# Altium schematic symbol library Connectors Sym Lib.SchLib: 70 symbols
Pins are listed as number, name and electrical type; pins without a type are passive.

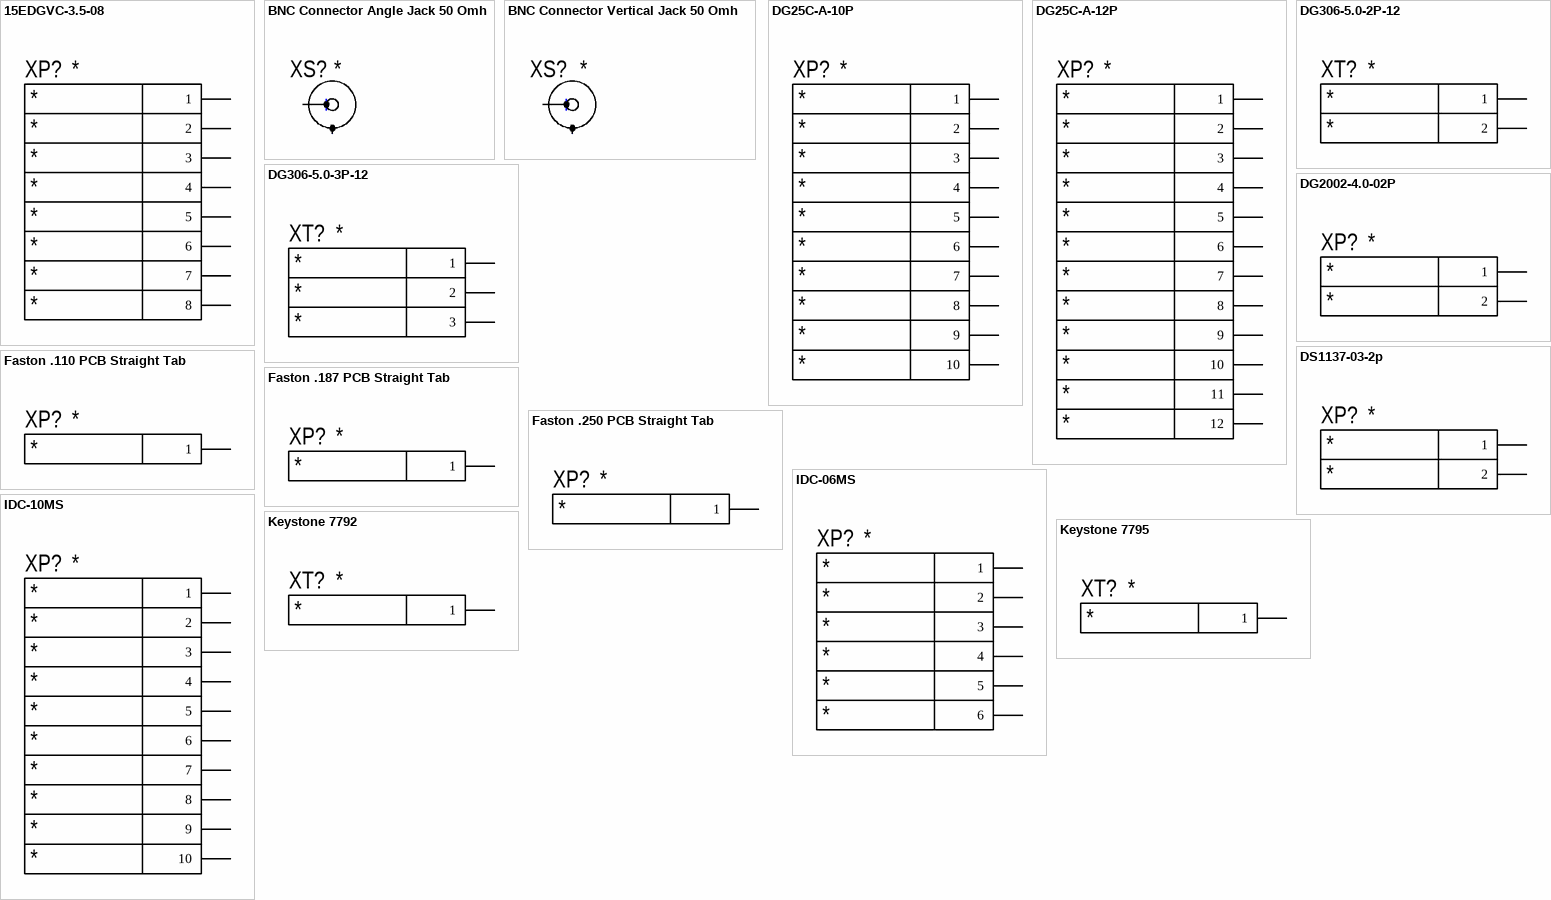
[diagram p0: symbols 15EDGVC-3.5-08 to Keystone 7795]

## 15EDGVC-3.5-08
designator XP?, comment PCB Vertical Connector 8-Pin, Pitch 3.5mm  (value not drawn)
PCB Vertical Connector 8-Pin Pitch 3.5mm, 300V, 8A per Pin; Manufacture: Degson; PartNumber: 15EDGVC-3.5-08; ComponentLink1Description: 15EDGVC-3.5(Degson); ComponentLink1URL: C:\Altium Libraries\Connectors Library\DataSheet\15EDGVC-3.5(Degson).pdf; Pin 8 Name: *; Pin 7 Name: *; Pin 6 Name: *; Pin 5 Name: *; Pin 4 Name: *; Pin 3 Name: *; Name Connector: *; Pin 2 Name: *; Pin 1 Name: *
footprint 15EDGVC-3.5-08 (PCB Vertical Connector 8-Pin)
pins: 1 "Pin 1", 2 "Pin 2", 3 "Pin 3", 4 "Pin 4", 5 "Pin 5", 6 "Pin 6", 7 "Pin 7", 8 "Pin 8"

## BNC Connector Angle Jack 50 Omh
designator XS?, comment BNC Angle Jack 50 Omh  (value not drawn)
BNC Connector Angle Jack 50 Omh; Manufacture: TE Connectivity; PartNumber: 5227677-1; ComponentLink1Description: BNC Connector Vertical Jack 50 Omh; ComponentLink1URL: https://www.te.com/commerce/DocumentDelivery/DDEController?Action=srchrtrv&DocNm=5227673&DocType=Customer+Drawing&DocLang=English; ComponentLink2Description: BNC Connector Angle Jack 50 Omh; ComponentLink2URL: https://www.te.com/commerce/DocumentDelivery/DDEController?Action=srchrtrv&DocNm=1634612&DocType=Customer+Drawing&DocLang=English; Name Connector: *
footprint BNC Angle (BNC Angle Jack PCB mount)
pins: 1 Core "Cenral Wire Coaxial Cable", 2 Shield "Cenral Wire Coaxial Cable"

## BNC Connector Vertical Jack 50 Omh
designator XS?, comment BNC Vertical Jack 50 Omh  (value not drawn)
BNC Connector Vertical Jack 50 Omh; Manufacture: TE Connectivity; PartNumber: 5227673-1; ComponentLink1Description: BNC Connector Vertical Jack 50 Omh; ComponentLink1URL: https://www.te.com/commerce/DocumentDelivery/DDEController?Action=srchrtrv&DocNm=5227673&DocType=Customer+Drawing&DocLang=English; Name Connector: *
footprint BNC Vertical (BNC Vertical Jack PCB mount)
pins: 1 Core "Cenral Wire Coaxial Cable", 2 Shield "Cenral Wire Coaxial Cable"

## DG25C-A-10P
designator XP?, comment PCB Vertical Connector 10-Pin, Pitch 7.62mm  (value not drawn)
PCB Vertical Connector 10-Pin Pitch 7.62mm, 300V, 10A per Pin; Manufacture: Degson; PartNumber: DG25C-A-10P-13-00A(H); ComponentLink2Description: DG25C-A Series Connector; ComponentLink2URL: *; Pin 10 Name: *; Pin 9 Name: *; Pin 8 Name: *; Pin 7 Name: *; Pin 6 Name: *; Pin 5 Name: *; Pin 4 Name: *; Pin 3 Name: *; Name Connector: *; Pin 2 Name: *; Pin 1 Name: *
footprint DG25C-A-10P (PCB Vertical Connector 10-Pin)
pins: 1 "Pin 1", 2 "Pin 2", 3 "Pin 3", 4 "Pin 4", 5 "Pin 5", 6 "Pin 6", 7 "Pin 7", 8 "Pin 8", 9 "Pin 9", 10 "Pin 10"

## DG25C-A-12P
designator XP?, comment PCB Vertical Connector 12-Pin, Pitch 7.62mm  (value not drawn)
PCB Vertical Connector 12-Pin Pitch 7.62mm, 300V, 15A per Pin; Manufacture: Degson; PartNumber: DG25C-A-12P-13-00A(H); ComponentLink2Description: DG25C-A Series Connector; ComponentLink2URL: *; Pin 12 Name: *; Pin 11 Name: *; Pin 10 Name: *; Pin 9 Name: *; Pin 8 Name: *; Pin 7 Name: *; Pin 6 Name: *; Pin 5 Name: *; Pin 4 Name: *; Pin 3 Name: *; Name Connector: *; Pin 2 Name: *; Pin 1 Name: *
footprint DG25C-A-12P (PCB Vertical Connector 12-Pin)
pins: 1 "Pin 1", 2 "Pin 2", 3 "Pin 3", 4 "Pin 4", 5 "Pin 5", 6 "Pin 6", 7 "Pin 7", 8 "Pin 8", 9 "Pin 9", 10 "Pin 10", 11 "Pin 10", 12 "Pin 10"

## DG306-5.0-2P-12
designator XT?, comment PCB Screw Terminal Blocks 2-Pin, Pitch 5mm  (value not drawn)
PCB Screw Terminal Blocks 2-Pole, Pitch 5mm, 250V, 15A per Pin; Manufacture: Degson; PartNumber: DG306-5.0-2P-12; ComponentLink1Description: DG306-5.0 Series Connector (Degson); ComponentLink1URL: http://www.degson.com/en/downpdf/id/948.html; Name Connector: *; Pin 2 Name: *; Pin 1 Name: *
footprint DG306-5.0-2P (Degson PCB Screw Terminal Blocks)
pins: 1 "Pin 1", 2 "Pin 2"

## DG306-5.0-3P-12
designator XT?, comment PCB Screw Terminal Blocks 3-Pin, Pitch 5mm  (value not drawn)
PCB Screw Terminal Blocks 3-Pole, Pitch 5mm, 250V, 15A per Pin; Manufacture: Degson; PartNumber: DG306-5.0-3P-12; ComponentLink1Description: DG306-5.0 Series Connector (Degson); ComponentLink1URL: http://www.degson.com/en/downpdf/id/948.html; Pin 3 Name: *; Name Connector: *; Pin 2 Name: *; Pin 1 Name: *
footprint DG306-5.0-3P (Degson PCB Screw Terminal Blocks)
pins: 1 "Pin 1", 2 "Pin 2", 3 "Pin 3"

## DG2002-4.0-02P
designator XP?
Manufacture: *; PartNumber: *; Name Connector: *; Pin 2 Name: *; Pin 1 Name: *
footprint DG2002-4.0-02P (2.0mm Pitch Disconnectable Crimp Style Connector, Body 7.9mm x 8.6mm)
pins: 1 "Pin 1", 2 "Pin 2"

## DS1137-03-2p
designator XP?
Manufacture: *; PartNumber: *; Name Connector: *; Pin 2 Name: *; Pin 1 Name: *
footprint DS1137-03-2p
pins: 1 "Pin 1", 2 "Pin 2"

## Faston .110 PCB Straight Tab
designator XP?  (value not drawn)
TE Connectivity FASTON .110 Series , Straight Mount Angle PCB Tab Terminal, 2.8 x 0.8mm Tin Plated; PartNumber: 735427-2; ComponentLink1Description: TE Connectivity FASTON .110 Series(P/N 735427-2); ComponentLink1URL: https://www.te.com/commerce/DocumentDelivery/DDEController?Action=srchrtrv&DocNm=735427&DocType=Customer+Drawing&DocLang=English; Manufacture: TE Connectivity; ComponentLink2Description: Wiki; ComponentLink2URL: https://en.wikipedia.org/wiki/FASTON_terminal; Pin Name: *; Name Connector: *
footprint Faston .110 (Faston .110  Series , Straight, PCB, 2.8 x 0.8mm)
pins: 1 "Pin 1"

## Faston .187 PCB Straight Tab
designator XP?  (value not drawn)
TE Connectivity FASTON .187 Series , Straight Mount Angle PCB Tab Terminal, 4.75 x 0.8mm Tin Plated; PartNumber: 1212; Manufacture: Keystone Electronics; ComponentLink1Description: Keystone Electronics FASTON .187 Series(P/N 1212); ComponentLink1URL: http://www.keyelco.com/product-pdf.cfm?p=595; ComponentLink2Description: Wiki; ComponentLink2URL: https://en.wikipedia.org/wiki/FASTON_terminal; Pin Name: *; Name Connector: *
footprint Faston .187 (Faston .187  Series , Straight, PCB, 4.75 x 0.8mm)
pins: 1 "Pin 1"

## Faston .250 PCB Straight Tab
designator XP?, comment Faston .187 PCB Straight Tab  (value not drawn)
TE Connectivity FASTON .250 Series , Straight Mount Angle PCB Tab Terminal, 6.35 x 0.8mm Tin Plated; PartNumber: 1287; Manufacture: Keystone Electronics; ComponentLink1Description: Keystone Electronics FASTON .250 Series(P/N 1287); ComponentLink1URL: http://www.keyelco.com/product-pdf.cfm?p=610; ComponentLink2Description: Wiki; ComponentLink2URL: https://en.wikipedia.org/wiki/FASTON_terminal; Pin Name: *; Name Connector: *
footprint Faston .250 (Faston .250  Series , Straight, PCB, 6.35 x 0.8mm)
pins: 1 "Pin 1"

## IDC-06MS
designator XP?, comment PCB Vertical Connector 6-Pin, Pitch 2.54mm  (value not drawn)
PCB Vertical Connector 6-Pin Pitch 2.54mm, 250V, 3A per Pin; Manufacture: Connfly; PartNumber: DS1013-10SSiB1-B-0; ComponentLink1Description: WF (DS1070) Series Connector; ComponentLink1URL: https://static.chipdip.ru/lib/463/DOC002463525.pdf; Pin 6 Name: *; Pin 5 Name: *; Pin 4 Name: *; Pin 3 Name: *; Name Connector: *; Pin 2 Name: *; Pin 1 Name: *
footprint IDC-06MS
pins: 1 "Pin 1", 2 "Pin 2", 3 "Pin 3", 4 "Pin 4", 5 "Pin 5", 6 "Pin 6"

## IDC-10MS
designator XP?, comment PCB Vertical Connector 10-Pin, Pitch 2.54mm  (value not drawn)
PCB Vertical Connector 10-Pin Pitch 2.54mm, 250V, 3A per Pin; Manufacture: Connfly; PartNumber: DS1013-10SSiB1-B-0; ComponentLink1Description: WF (DS1070) Series Connector; ComponentLink1URL: https://static.chipdip.ru/lib/463/DOC002463525.pdf; Pin 10 Name: *; Pin 9 Name: *; Pin 8 Name: *; Pin 7 Name: *; Pin 6 Name: *; Pin 5 Name: *; Pin 4 Name: *; Pin 3 Name: *; Name Connector: *; Pin 2 Name: *; Pin 1 Name: *
footprint IDC-10MS
pins: 1 "Pin 1", 2 "Pin 2", 3 "Pin 3", 4 "Pin 4", 5 "Pin 5", 6 "Pin 6", 7 "Pin 7", 8 "Pin 8", 9 "Pin 9", 10 "Pin 10"

## Keystone 7792
designator XT?, comment Keystone 7792 M4 Screw Terminal  (value not drawn)
Keystone, M4, PCB Screw Terminal, Tin Plated; PartNumber: 7792; ComponentLink1Description: Keystone 7792 M4 Screw Terminal; ComponentLink1URL: https://ru.mouser.com/datasheet/2/215/792-741216.pdf; Manufacture: Keystone; Pin Name: *; Name Connector: *
footprint 7792(Keystone) (Keystone)
pins: 1 "Pin 1"

## Keystone 7795
designator XT?, comment Keystone 7795 M4 Screw Terminal  (value not drawn)
Keystone, M4, PCB Screw Terminal, Tin Plated; PartNumber: 7795; ComponentLink1Description: Keystone 7795 M4 Screw Terminal; ComponentLink1URL: https://ru.mouser.com/datasheet/2/215/795-741217.pdf; Manufacture: Keystone; Pin Name: *; Name Connector: *
footprint 7795(Keystone) (Keystone)
pins: 1 "Pin 1"

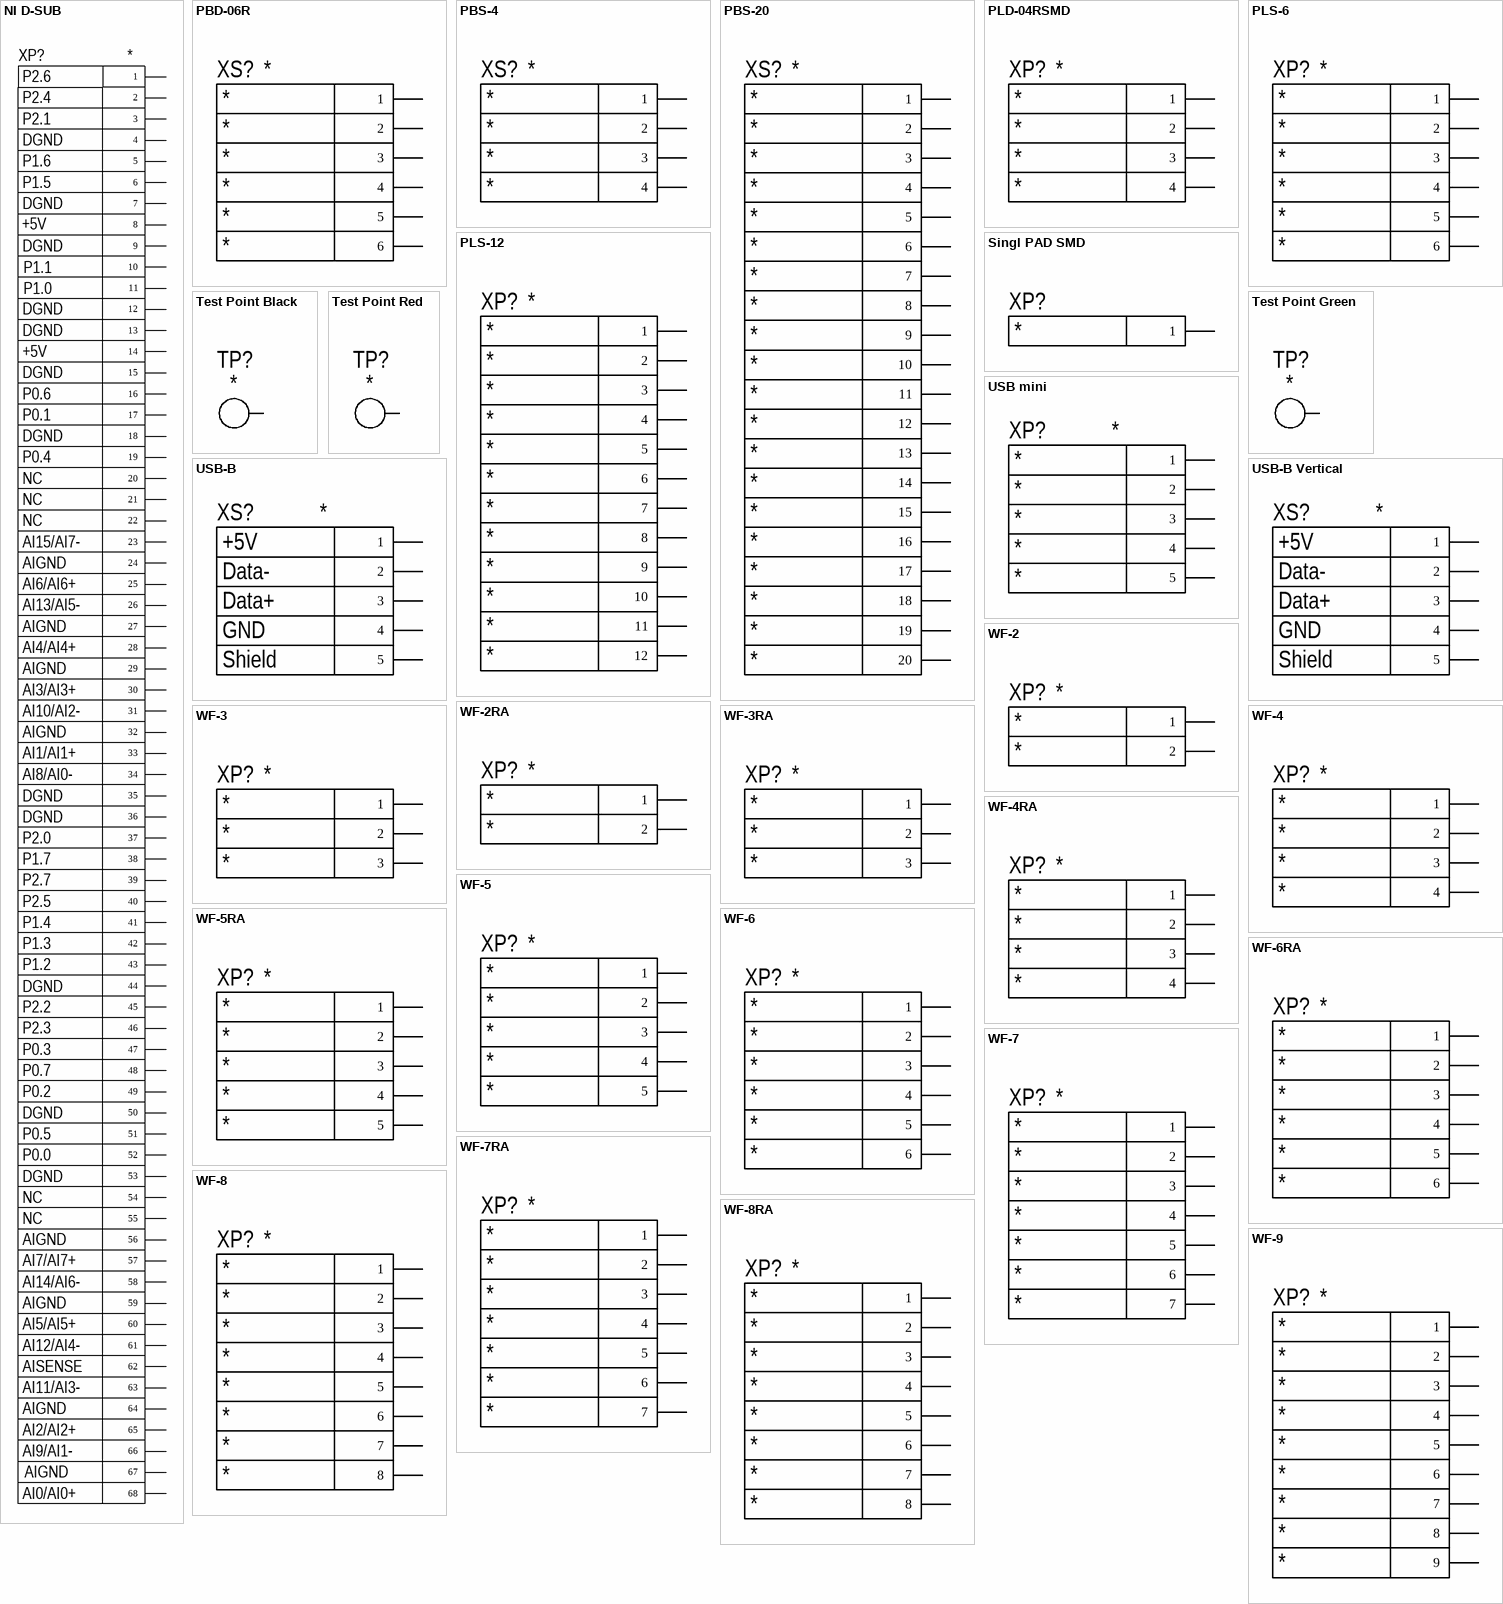
[diagram p1: symbols NI D-SUB to WF-9]

## NI D-SUB
designator XP?, comment National Instruments 68-pin D-SUB  (value not drawn)
Name Connector: *
footprint PLD-68 (PCB Vertical Connector 2x68)
pins: 1 "Pin 1", 2 "Pin 2", 3 "Pin 3", 4 "Pin 4", 5 "Pin 5", 6 "Pin 6", 7 "Pin 7", 8 "Pin 8", 9 "Pin 9", 10 "Pin 10", 11 "Pin 11", 12 "Pin 12", 13 "Pin 13", 14 "Pin 14", 15 "Pin 15", 16 "Pin 16", 17 "Pin 17", 18 "Pin 18", 19 "Pin 19", 20 "Pin 20", 21 "Pin 21", 22 "Pin 22", 23 "Pin 23", 24 "Pin 24", 25 "Pin 25", 26 "Pin 26", 27 "Pin 27", 28 "Pin 28", 29 "Pin 29", 30 "Pin 30", 31 "Pin 31", 32 "Pin 32", 33 "Pin 33", 34 "Pin 34", 35 "Pin 35", 36 "Pin 36", 37 "Pin 37", 38 "Pin 38", 39 "Pin 39", 40 "Pin 40", 41 "Pin 41", 42 "Pin 42", 43 "Pin 43", 44 "Pin 44", 45 "Pin 45", 46 "Pin 46", 47 "Pin 47", 48 "Pin 48", 49 "Pin 49", 50 "Pin 50", 51 "Pin 51", 52 "Pin 52", 53 "Pin 53", 54 "Pin 54", 55 "Pin 55", 56 "Pin 56", 57 "Pin 57", 58 "Pin 58", 59 "Pin 59", 60 "Pin 60", 61 "Pin 61", 62 "Pin 62", 63 "Pin 63", 64 "Pin 64", 65 "Pin 65", 66 "Pin 66", 67 "Pin 67", 68 "Pin 68"
text: P2.6; P2.4; P2.1; DGND; P1.6; P1.5; +5V; P1.1; P1.0; P0.6; P0.1; P0.4; NC; AI15/AI7-; AIGND; AI6/AI6+; AI13/AI5-; AI4/AI4+; AI3/AI3+; AI10/AI2-; AI1/AI1+; AI8/AI0-; P2.0; P1.7; P2.7; P2.5; P1.4; P1.3; P1.2; P2.2; P2.3; P0.3; P0.7; P0.2; P0.5; P0.0; AI7/AI7+; AI14/AI6-; AI5/AI5+; AI12/AI4-; AISENSE; AI11/AI3-; AI2/AI2+; AI9/AI1-; AI0/AI0+

## PBD-06R
designator XS?, comment PCB Rigth Angle  Connector 2*3-Pin, Pitch 2.54mm  (value not drawn)
PCB Rigth Angle Connector 2*3-Pin Pitch 2.54mm, 250V, 3A per Pin; Manufacture: Connfly; PartNumber: DS1024-2x3RF1; ComponentLink1Description: PBD (DS1024) Series Connector; ComponentLink1URL: http://www.connfly.com/userfiles/image/UpLoadFile/File/2016/1/22/DS1024.pdf; Pin 6 Name: *; Pin 5 Name: *; Pin 4 Name: *; Pin 3 Name: *; Name Connector: *; Pin 2 Name: *; Pin 1 Name: *
footprint PBD-06R (PCB Vertical Connector 6-Pin)
pins: 1 "Pin 1", 2 "Pin 2", 3 "Pin 3", 4 "Pin 4", 5 "Pin 5", 6 "Pin 6"

## PBS-4
designator XS?, comment PCB Vertical Connector 4-Pin, Pitch 2.54mm  (value not drawn)
PCB Vertical Connector 4-Pin Pitch 2.54mm, 250V, 3A per Pin; Manufacture: Connfly; PartNumber: DS1023-1*20SF11; ComponentLink1Description: PBS (DS1023) Series Connector; ComponentLink1URL: http://www.connfly.com/userfiles/image/UpLoadFile/File/2015/2/10/DS1023.pdf; Pin 4 Name: *; Pin 3 Name: *; Name Connector: *; Pin 2 Name: *; Pin 1 Name: *
footprint PBS-4 (PCB Vertical Connector 4-Pin)
pins: 1 "Pin 1", 2 "Pin 2", 3 "Pin 3", 4 "Pin 4"

## PBS-20
designator XS?, comment PCB Vertical Connector 20-Pin, Pitch 2.54mm  (value not drawn)
PCB Vertical Connector 20-Pin Pitch 2.54mm, 250V, 3A per Pin; Manufacture: Connfly; PartNumber: DS1023-1*20SF11; ComponentLink1Description: PBS (DS1023) Series Connector; ComponentLink1URL: http://www.connfly.com/userfiles/image/UpLoadFile/File/2015/2/10/DS1023.pdf; Pin 20 Name: *; Pin 19 Name: *; Pin 18 Name: *; Pin 17 Name: *; Pin 16 Name: *; Pin 15 Name: *; Pin 14 Name: *; Pin 13 Name: *; Pin 12 Name: *; Pin 11 Name: *; Pin 10 Name: *; Pin 9 Name: *; Pin 8 Name: *; Pin 7 Name: *; Pin 6 Name: *; Pin 5 Name: *; Pin 4 Name: *; Pin 3 Name: *; Name Connector: *; Pin 2 Name: *; Pin 1 Name: *
footprint PBS-20 (PCB Vertical Connector 20-Pin)
pins: 1 "Pin 1", 2 "Pin 2", 3 "Pin 3", 4 "Pin 4", 5 "Pin 5", 6 "Pin 6", 7 "Pin 7", 8 "Pin 8", 9 "Pin 9", 10 "Pin 10", 11 "Pin 11", 12 "Pin 12", 13 "Pin 13", 14 "Pin 14", 15 "Pin 15", 16 "Pin 16", 17 "Pin 17", 18 "Pin 18", 19 "Pin 19", 20 "Pin 20"

## PLD-04RSMD
designator XP?, comment PCB Vertical Connector 4-Pin, Pitch 2.54mm  (value not drawn)
PLDR-04SMD PCB SMD Right Angled Dual Row Connector 4-Pin Pitch 2.54mm, 250V, 3A per Pin; Manufacture: Unknown; PartNumber: 1225-22; ComponentLink1Description: PBS (DS1023) Series Connector; ComponentLink1URL: No available; Pin 4 Name: *; Pin 3 Name: *; Name Connector: *; Pin 2 Name: *; Pin 1 Name: *
footprint PLD-04RSMD (Right Angled Dual Row Connector SMD PLD-04RSMD 3A 250V)
pins: 1 "Pin 1", 2 "Pin 2", 3 "Pin 3", 4 "Pin 4"

## PLS-6
designator XP?, comment PCB Vertical Connector 6-Pin, Pitch 2.54mm  (value not drawn)
PCB Vertical Connector 6-Pin Pitch 2.54mm, 250V, 3A per Pin; Manufacture: Connfly; PartNumber: DS1070-6MVV6A; ComponentLink1Description: PLS (DS1021) Series Connector; ComponentLink1URL: http://www.connfly.com/userfiles/image/UpLoadFile/File/2015/1/29/DS1021.pdf; Pin 6 Name: *; Pin 5 Name: *; Pin 4 Name: *; Pin 3 Name: *; Name Connector: *; Pin 2 Name: *; Pin 1 Name: *
footprint PLS-6 (PCB Vertical Connector 6-Pin)
pins: 1 "Pin 1", 2 "Pin 2", 3 "Pin 3", 4 "Pin 4", 5 "Pin 5", 6 "Pin 6"

## PLS-12
designator XP?, comment PCB Vertical Connector 12-Pin, Pitch 2.54mm  (value not drawn)
PCB Vertical Connector 12-Pin Pitch 2.54mm, 250V, 3A per Pin; Manufacture: Connfly; PartNumber: DS1070-12MVV6A; ComponentLink1Description: WF (DS1070) Series Connector; ComponentLink1URL: http://www.connfly.com/userfiles/image/UpLoadFile/File/2018/2/28/DS1070.pdf; Pin 12 Name: *; Pin 11 Name: *; Pin 10 Name: *; Pin 9 Name: *; Pin 8 Name: *; Pin 7 Name: *; Pin 6 Name: *; Pin 5 Name: *; Pin 4 Name: *; Pin 3 Name: *; Name Connector: *; Pin 2 Name: *; Pin 1 Name: *
footprint PLS-12 (PCB Vertical Connector 6-Pin)
pins: 1 "Pin 1", 2 "Pin 2", 3 "Pin 3", 4 "Pin 4", 5 "Pin 5", 6 "Pin 6", 7 "Pin 7", 8 "Pin 8", 9 "Pin 9", 10 "Pin 10", 11 "Pin 11", 12 "Pin 12"

## Singl PAD SMD
designator XP?
Pin 1 Name: *
footprint PAD
pins: 1 "Pin 1"

## Test Point Black
designator TP?, comment Test Point Black Color  (value not drawn)
Test Point 3 mm, Black Color, Gold Plated; PartNumber: AliExpress; Manufacture: N/A; Name Connector: *
footprint Test Point 3mm Black (Test Point 3mm Connector, Black Color)
pins: 1 "Pin 1"

## Test Point Green
designator TP?, comment Test Point Green Color  (value not drawn)
Test Point 3 mm, Green Color, Gold Plated; PartNumber: AliExpress; Manufacture: N/A; Name Connector: *
footprint Test Point 3mm Green (Test Point 3mm Connector, Green Color)
pins: 1 "Pin 1"

## Test Point Red
designator TP?, comment Test Point Red Color  (value not drawn)
Test Point 3 mm, Red Color, Gold Plated; PartNumber: 7792; Manufacture: Keystone; ComponentLink1Description: Test Point Red Color; ComponentLink1URL: https://ru.mouser.com/datasheet/2/215/792-741216.pdf; Name Connector: *
footprint Test Point 3mm Red (Test Point 3mm Connector, Red Color)
pins: 1 "Pin 1"

## USB mini
designator XP?
Pin 5 Name: *; Pin 4 Name: *; Pin 3 Name: *; Pin 2 Name: *; Pin 1 Name: *
footprint XM7D-0512 (USB-mini)
pins: 1 "Pin 1", 2 "Pin 2", 3 "Pin 3", 4 "Pin 4", 5 "Pin 5", GND hidden

## USB-B
designator XS?  Pin 5 Name: Shield  Pin 4 Name: GND  Pin 3 Name: Data+  Pin 2 Name: Data-  Pin 1 Name: +5V
USB-B Socket (ConnFly DS1099); PartNumber: DS1099-W
footprint USB-B (USB-B (DS1099-W))
pins: +5V 1 "Pin 1", D+ 3 "Pin 3", D- 2 "Pin 2", GND 4 "Pin 4", Shield 5 "Pin 5"

## USB-B Vertical
designator XS?  Pin 5 Name: Shield  Pin 4 Name: GND  Pin 3 Name: Data+  Pin 2 Name: Data-  Pin 1 Name: +5V
USB-B Socket (ConnFly DS1099); PartNumber: DS1099-W
footprint USB-B  VERTICAL (USB, MICRO-B  VERTICAL TYPE)
pins: +5V 1 "Pin 1", D+ 3 "Pin 3", D- 2 "Pin 2", GND 4 "Pin 4", Shield 5 "Pin 5"

## WF-2
designator XP?, comment PCB Vertical Connector 2-Pin, Pitch 2.54mm  (value not drawn)
PCB Vertical Connector 2 Pin Pitch 2.54mm, 250V, 3A per Pin; Manufacture: Connfly; PartNumber: DS1070-2MVV6A; ComponentLink1Description: WF (DS1070) Series Connector; ComponentLink1URL: http://www.connfly.com/userfiles/image/UpLoadFile/File/2018/2/28/DS1070.pdf; Name Connector: *; Pin 2 Name: *; Pin 1 Name: *
footprint WF-2 (PCB Vertical Connector 2-Pin)
pins: 1 "Pin 1", 2 "Pin 2"

## WF-2RA
designator XP?, comment PCB Rigth Angle Connector 2-Pin, Pitch 2.54mm  (value not drawn)
PCB Rigth Angle Connector 2-Pin, Pitch 2.54mm, 250V, 3A per Pin; Manufacture: Connfly; PartNumber: DS1070-2MRV6A; ComponentLink1Description: WF (DS1070) Series Connector; ComponentLink1URL: http://www.connfly.com/userfiles/image/UpLoadFile/File/2018/2/28/DS1070.pdf; Name Connector: *; Pin 2 Name: *; Pin 1 Name: *
footprint WF-2RA (PCB Rigth Angle Connector 2-Pin)
pins: 1 "Pin 1", 2 "Pin 2"

## WF-3
designator XP?, comment PCB Vertical Connector 3-Pin, Pitch 2.54mm  (value not drawn)
PCB Vertical Connector 3-Pin Pitch 2.54mm, 250V, 3A per Pin; Manufacture: Connfly; PartNumber: DS1070-3MVV6A; ComponentLink1Description: WF (DS1070) Series Connector; ComponentLink1URL: http://www.connfly.com/userfiles/image/UpLoadFile/File/2018/2/28/DS1070.pdf; Pin 3 Name: *; Name Connector: *; Pin 2 Name: *; Pin 1 Name: *
footprint WF-3 (PCB Vertical Connector 3-Pin)
pins: 1 "Pin 1", 2 "Pin 2", 3 "Pin 3"

## WF-3RA
designator XP?, comment PCB Rigth Angle Connector 3-Pin, Pitch 2.54mm  (value not drawn)
PCB Rigth Angle Connector 3-Pin, Pitch 2.54mm, 250V, 3A per Pin; Manufacture: Connfly; PartNumber: DS1070-3MRV6A; ComponentLink1Description: WF (DS1070) Series Connector; ComponentLink1URL: http://www.connfly.com/userfiles/image/UpLoadFile/File/2018/2/28/DS1070.pdf; Pin 3 Name: *; Name Connector: *; Pin 2 Name: *; Pin 1 Name: *
footprint WF-3RA (PCB Rigth Angle Connector 3-Pin)
pins: 1 "Pin 1", 2 "Pin 2", 3 "Pin 3"

## WF-4
designator XP?, comment PCB Vertical Connector 4-Pin, Pitch 2.54mm  (value not drawn)
PCB Vertical Connector 4-Pin Pitch 2.54mm, 250V, 3A per Pin; Manufacture: Connfly; PartNumber: DS1070-4MVV6A; ComponentLink1Description: WF (DS1070) Series Connector; ComponentLink1URL: http://www.connfly.com/userfiles/image/UpLoadFile/File/2018/2/28/DS1070.pdf; Pin 4 Name: *; Pin 3 Name: *; Name Connector: *; Pin 2 Name: *; Pin 1 Name: *
footprint WF-4 (PCB Vertical Connector 4-Pin)
pins: 1 "Pin 1", 2 "Pin 2", 3 "Pin 3", 4 "Pin 4"

## WF-4RA
designator XP?, comment PCB Rigth Angle Connector 4-Pin, Pitch 2.54mm  (value not drawn)
PCB Rigth Angle Connector 4-Pin, Pitch 2.54mm, 250V, 3A per Pin; Manufacture: Connfly; PartNumber: DS1070-4MRV6A; ComponentLink1Description: WF (DS1070) Series Connector; ComponentLink1URL: http://www.connfly.com/userfiles/image/UpLoadFile/File/2018/2/28/DS1070.pdf; Pin 4 Name: *; Pin 3 Name: *; Name Connector: *; Pin 2 Name: *; Pin 1 Name: *
footprint WF-4RA (PCB Rigth Angle Connector 4-Pin)
pins: 1 "Pin 1", 2 "Pin 2", 3 "Pin 3", 4 "Pin 4"

## WF-5
designator XP?, comment PCB Vertical Connector 5-Pin, Pitch 2.54mm  (value not drawn)
PCB Vertical Connector 5-Pin Pitch 2.54mm, 250V, 3A per Pin; Manufacture: Connfly; PartNumber: DS1070-5MVV6A; ComponentLink1Description: WF (DS1070) Series Connector; ComponentLink1URL: http://www.connfly.com/userfiles/image/UpLoadFile/File/2018/2/28/DS1070.pdf; Pin 5 Name: *; Pin 4 Name: *; Pin 3 Name: *; Name Connector: *; Pin 2 Name: *; Pin 1 Name: *
footprint WF-5 (PCB Vertical Connector 5-Pin)
pins: 1 "Pin 1", 2 "Pin 2", 3 "Pin 3", 4 "Pin 4", 5 "Pin 5"

## WF-5RA
designator XP?, comment PCB Rigth Angle Connector 5-Pin, Pitch 2.54mm  (value not drawn)
PCB Rigth Angle Connector 5-Pin, Pitch 2.54mm, 250V, 3A per Pin; Manufacture: Connfly; PartNumber: DS1070-5MRV6A; ComponentLink1Description: WF (DS1070) Series Connector; ComponentLink1URL: http://www.connfly.com/userfiles/image/UpLoadFile/File/2018/2/28/DS1070.pdf; Pin 5 Name: *; Pin 4 Name: *; Pin 3 Name: *; Name Connector: *; Pin 2 Name: *; Pin 1 Name: *
footprint WF-5RA (PCB Rigth Angle Connector 5-Pin)
pins: 1 "Pin 1", 2 "Pin 2", 3 "Pin 3", 4 "Pin 4", 5 "Pin 5"

## WF-6
designator XP?, comment PCB Vertical Connector 6-Pin, Pitch 2.54mm  (value not drawn)
PCB Vertical Connector 6-Pin Pitch 2.54mm, 250V, 3A per Pin; Manufacture: Connfly; PartNumber: DS1070-6MVV6A; ComponentLink1Description: WF (DS1070) Series Connector; ComponentLink1URL: http://www.connfly.com/userfiles/image/UpLoadFile/File/2018/2/28/DS1070.pdf; Pin 6 Name: *; Pin 5 Name: *; Pin 4 Name: *; Pin 3 Name: *; Name Connector: *; Pin 2 Name: *; Pin 1 Name: *
footprint WF-6 (PCB Vertical Connector 6-Pin)
pins: 1 "Pin 1", 2 "Pin 2", 3 "Pin 3", 4 "Pin 4", 5 "Pin 5", 6 "Pin 6"

## WF-6RA
designator XP?, comment PCB Rigth Angle Connector 6-Pin, Pitch 2.54mm  (value not drawn)
PCB Rigth Angle Connector 6-Pin, Pitch 2.54mm, 250V, 3A per Pin; Manufacture: Connfly; PartNumber: DS1070-6MRV6A; ComponentLink1Description: WF (DS1070) Series Connector; ComponentLink1URL: http://www.connfly.com/userfiles/image/UpLoadFile/File/2018/2/28/DS1070.pdf; Pin 6 Name: *; Pin 5 Name: *; Pin 4 Name: *; Pin 3 Name: *; Name Connector: *; Pin 2 Name: *; Pin 1 Name: *
footprint WF-6RA (PCB Rigth Angle Connector 6-Pin)
pins: 1 "Pin 1", 2 "Pin 2", 3 "Pin 3", 4 "Pin 4", 5 "Pin 5", 6 "Pin 6"

## WF-7
designator XP?, comment PCB Vertical Connector 7-Pin, Pitch 2.54mm  (value not drawn)
PCB Vertical Connector 7-Pin Pitch 2.54mm, 250V, 3A per Pin; Manufacture: Connfly; PartNumber: DS1070-7MVV6A; ComponentLink1Description: WF (DS1070) Series Connector; ComponentLink1URL: http://www.connfly.com/userfiles/image/UpLoadFile/File/2018/2/28/DS1070.pdf; Pin 7 Name: *; Pin 6 Name: *; Pin 5 Name: *; Pin 4 Name: *; Pin 3 Name: *; Name Connector: *; Pin 2 Name: *; Pin 1 Name: *
footprint WF-7 (PCB Vertical Connector 7-Pin)
pins: 1 "Pin 1", 2 "Pin 2", 3 "Pin 3", 4 "Pin 4", 5 "Pin 5", 6 "Pin 6", 7 "Pin 7"

## WF-7RA
designator XP?, comment PCB Rigth Angle Connector 7-Pin, Pitch 2.54mm  (value not drawn)
PCB Rigth Angle Connector 7-Pin, Pitch 2.54mm, 250V, 3A per Pin; Manufacture: Connfly; PartNumber: DS1070-7MRV6A; ComponentLink1Description: WF (DS1070) Series Connector; ComponentLink1URL: http://www.connfly.com/userfiles/image/UpLoadFile/File/2018/2/28/DS1070.pdf; Pin 7 Name: *; Pin 6 Name: *; Pin 5 Name: *; Pin 4 Name: *; Pin 3 Name: *; Name Connector: *; Pin 2 Name: *; Pin 1 Name: *
footprint WF-7RA (PCB Rigth Angle Connector 7-Pin)
pins: 1 "Pin 1", 2 "Pin 2", 3 "Pin 3", 4 "Pin 4", 5 "Pin 5", 6 "Pin 6", 7 "Pin 7"

## WF-8
designator XP?, comment PCB Vertical Connector 8-Pin, Pitch 2.54mm  (value not drawn)
PCB Vertical Connector 8-Pin Pitch 2.54mm, 250V, 3A per Pin; Manufacture: Connfly; PartNumber: DS1070-8MVV6A; ComponentLink1Description: WF (DS1070) Series Connector; ComponentLink1URL: http://www.connfly.com/userfiles/image/UpLoadFile/File/2018/2/28/DS1070.pdf; Pin 8 Name: *; Pin 7 Name: *; Pin 6 Name: *; Pin 5 Name: *; Pin 4 Name: *; Pin 3 Name: *; Name Connector: *; Pin 2 Name: *; Pin 1 Name: *
footprint WF-8 (PCB Vertical Connector 8-Pin)
pins: 1 "Pin 1", 2 "Pin 2", 3 "Pin 3", 4 "Pin 4", 5 "Pin 5", 6 "Pin 6", 7 "Pin 7", 8 "Pin 8"

## WF-8RA
designator XP?, comment PCB Rigth Angle Connector 8-Pin, Pitch 2.54mm  (value not drawn)
PCB Rigth Angle Connector 8-Pin, Pitch 2.54mm, 250V, 3A per Pin; Manufacture: Connfly; PartNumber: DS1070-8MRV6A; ComponentLink1Description: WF (DS1070) Series Connector; ComponentLink1URL: http://www.connfly.com/userfiles/image/UpLoadFile/File/2018/2/28/DS1070.pdf; Pin 8 Name: *; Pin 7 Name: *; Pin 6 Name: *; Pin 5 Name: *; Pin 4 Name: *; Pin 3 Name: *; Name Connector: *; Pin 2 Name: *; Pin 1 Name: *
footprint WF-8RA (PCB Rigth Angle Connector 8-Pin)
pins: 1 "Pin 1", 2 "Pin 2", 3 "Pin 3", 4 "Pin 4", 5 "Pin 5", 6 "Pin 6", 7 "Pin 7", 8 "Pin 8"

## WF-9
designator XP?, comment PCB Vertical Connector 9-Pin, Pitch 2.54mm  (value not drawn)
PCB Vertical Connector 9-Pin Pitch 2.54mm, 250V, 3A per Pin; Manufacture: Connfly; PartNumber: DS1070-9MVV6A; ComponentLink1Description: WF (DS1070) Series Connector; ComponentLink1URL: http://www.connfly.com/userfiles/image/UpLoadFile/File/2018/2/28/DS1070.pdf; Pin 9 Name: *; Pin 8 Name: *; Pin 7 Name: *; Pin 6 Name: *; Pin 5 Name: *; Pin 4 Name: *; Pin 3 Name: *; Name Connector: *; Pin 2 Name: *; Pin 1 Name: *
footprint WF-9 (PCB Vertical Connector 9-Pin)
pins: 1 "Pin 1", 2 "Pin 2", 3 "Pin 3", 4 "Pin 4", 5 "Pin 5", 6 "Pin 6", 7 "Pin 7", 8 "Pin 8", 9 "Pin 9"

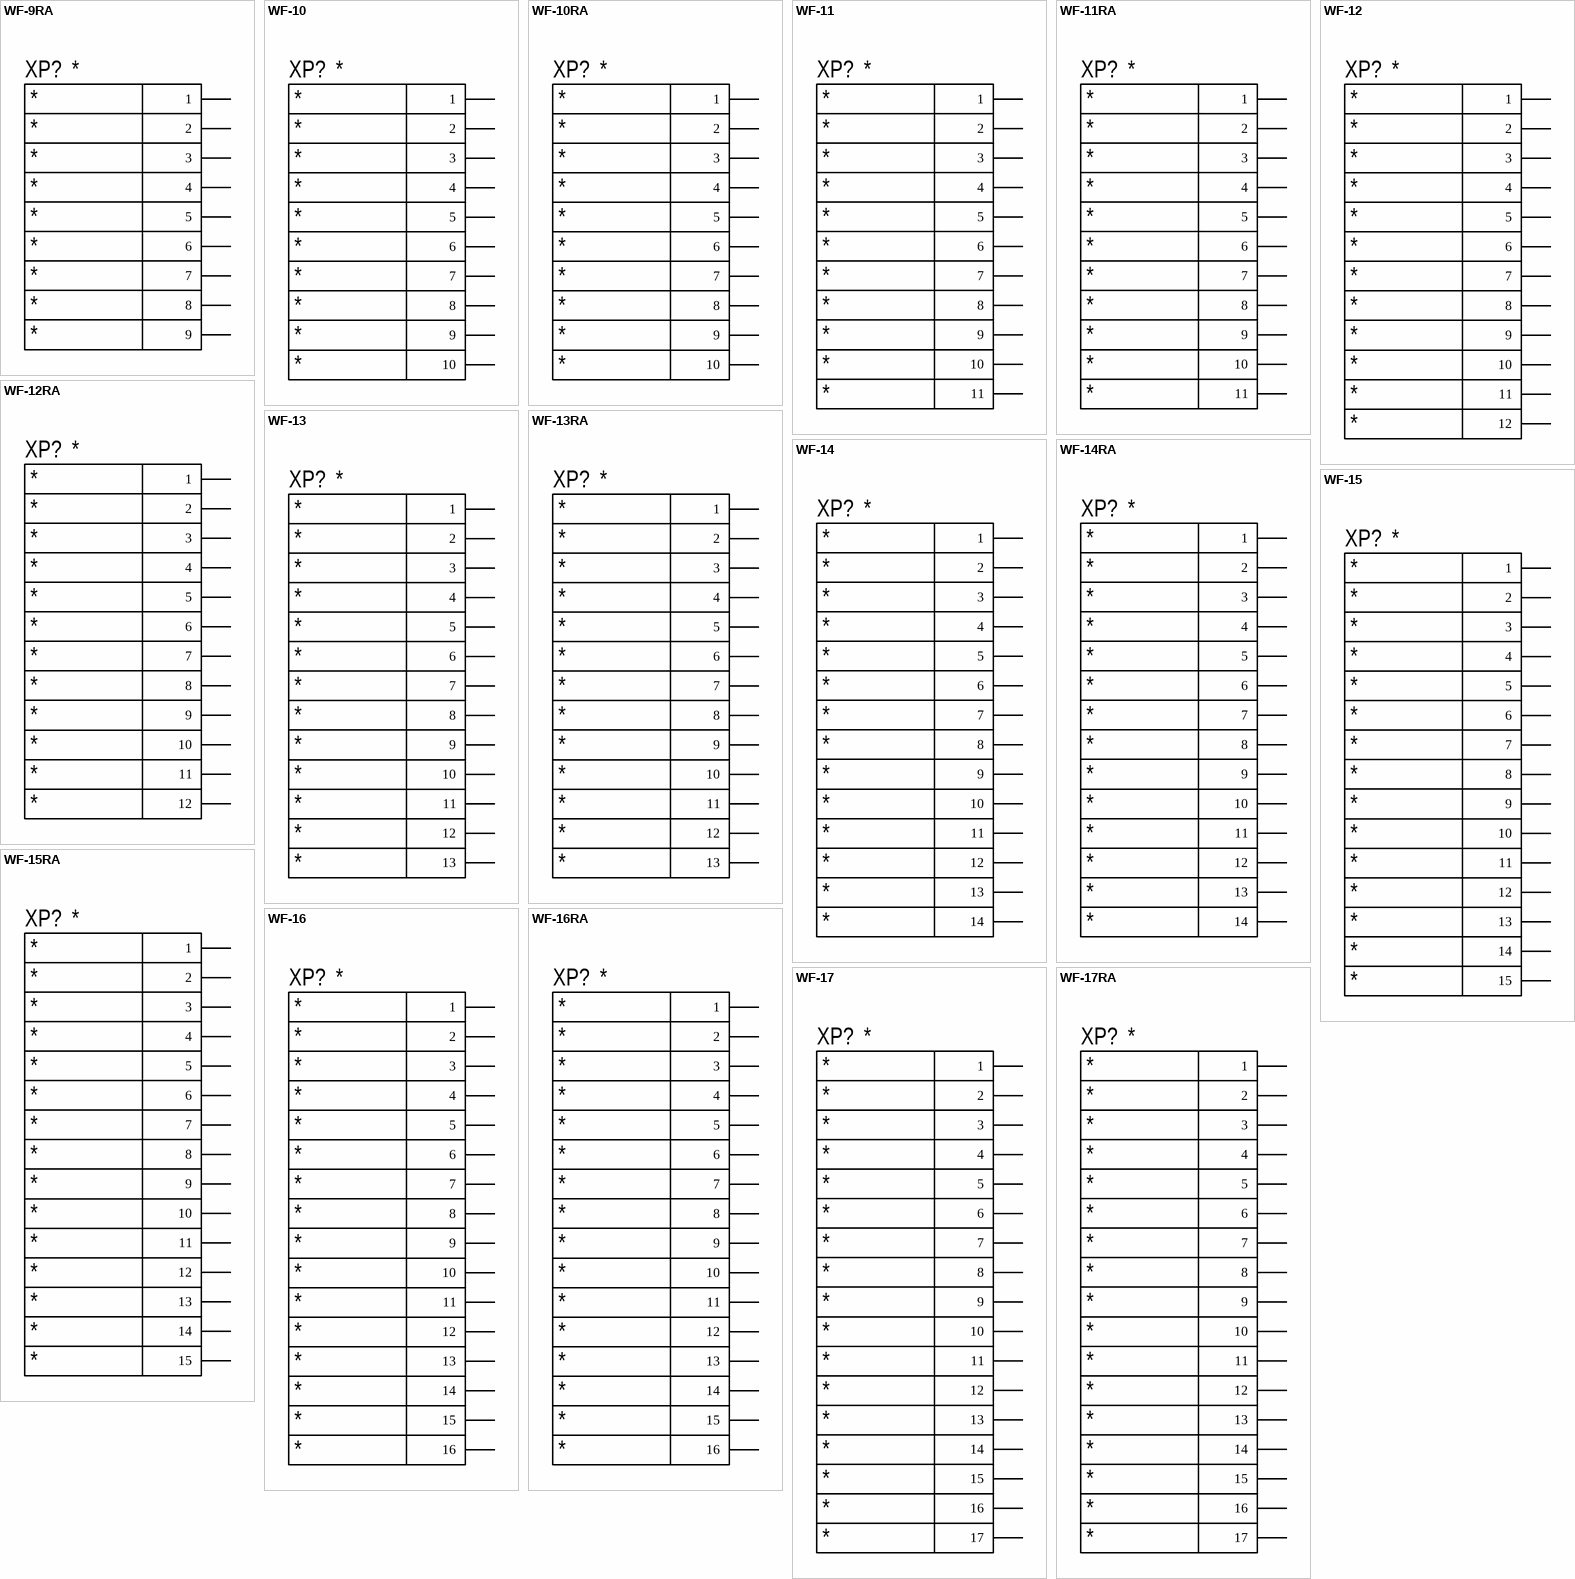
[diagram p2: symbols WF-9RA to WF-17RA]

## WF-9RA
designator XP?, comment PCB Rigth Angle Connector 9-Pin, Pitch 2.54mm  (value not drawn)
PCB Rigth Angle Connector 9-Pin, Pitch 2.54mm, 250V, 3A per Pin; Manufacture: Connfly; PartNumber: DS1070-9MRV6A; ComponentLink1Description: WF (DS1070) Series Connector; ComponentLink1URL: http://www.connfly.com/userfiles/image/UpLoadFile/File/2018/2/28/DS1070.pdf; Pin 9 Name: *; Pin 8 Name: *; Pin 7 Name: *; Pin 6 Name: *; Pin 5 Name: *; Pin 4 Name: *; Pin 3 Name: *; Name Connector: *; Pin 2 Name: *; Pin 1 Name: *
footprint WF-9RA (PCB Rigth Angle Connector 9-Pin)
pins: 1 "Pin 1", 2 "Pin 2", 3 "Pin 3", 4 "Pin 4", 5 "Pin 5", 6 "Pin 6", 7 "Pin 7", 8 "Pin 8", 9 "Pin 9"

## WF-10
designator XP?, comment PCB Vertical Connector 10-Pin, Pitch 2.54mm  (value not drawn)
PCB Vertical Connector 10-Pin Pitch 2.54mm, 250V, 3A per Pin; Manufacture: Connfly; PartNumber: DS1070-10MVV6A; ComponentLink1Description: WF (DS1070) Series Connector; ComponentLink1URL: http://www.connfly.com/userfiles/image/UpLoadFile/File/2018/2/28/DS1070.pdf; Pin 10 Name: *; Pin 9 Name: *; Pin 8 Name: *; Pin 7 Name: *; Pin 6 Name: *; Pin 5 Name: *; Pin 4 Name: *; Pin 3 Name: *; Name Connector: *; Pin 2 Name: *; Pin 1 Name: *
footprint WF-10 (PCB Vertical Connector 10-Pin)
pins: 1 "Pin 1", 2 "Pin 2", 3 "Pin 3", 4 "Pin 4", 5 "Pin 5", 6 "Pin 6", 7 "Pin 7", 8 "Pin 8", 9 "Pin 9", 10 "Pin 10"

## WF-10RA
designator XP?, comment PCB Rigth Angle Connector 10-Pin, Pitch 2.54mm  (value not drawn)
PCB Rigth Angle Connector 10-Pin, Pitch 2.54mm, 250V, 3A per Pin; Manufacture: Connfly; PartNumber: DS1070-10MRV6A; ComponentLink1Description: WF (DS1070) Series Connector; ComponentLink1URL: http://www.connfly.com/userfiles/image/UpLoadFile/File/2018/2/28/DS1070.pdf; Pin 10 Name: *; Pin 9 Name: *; Pin 8 Name: *; Pin 7 Name: *; Pin 6 Name: *; Pin 5 Name: *; Pin 4 Name: *; Pin 3 Name: *; Name Connector: *; Pin 2 Name: *; Pin 1 Name: *
footprint WF-10RA (PCB Rigth Angle Connector 10-Pin)
pins: 1 "Pin 1", 2 "Pin 2", 3 "Pin 3", 4 "Pin 4", 5 "Pin 5", 6 "Pin 6", 7 "Pin 7", 8 "Pin 8", 9 "Pin 9", 10 "Pin 10"

## WF-11
designator XP?, comment PCB Vertical Connector 11-Pin, Pitch 2.54mm  (value not drawn)
PCB Vertical Connector 11-Pin Pitch 2.54mm, 250V, 3A per Pin; Manufacture: Connfly; PartNumber: DS1070-11MVV6A; ComponentLink1Description: WF (DS1070) Series Connector; ComponentLink1URL: http://www.connfly.com/userfiles/image/UpLoadFile/File/2018/2/28/DS1070.pdf; Pin 11 Name: *; Pin 10 Name: *; Pin 9 Name: *; Pin 8 Name: *; Pin 7 Name: *; Pin 6 Name: *; Pin 5 Name: *; Pin 4 Name: *; Pin 3 Name: *; Name Connector: *; Pin 2 Name: *; Pin 1 Name: *
footprint WF-11 (PCB Vertical Connector 11-Pin)
pins: 1 "Pin 1", 2 "Pin 2", 3 "Pin 3", 4 "Pin 4", 5 "Pin 5", 6 "Pin 6", 7 "Pin 7", 8 "Pin 8", 9 "Pin 9", 10 "Pin 10", 11 "Pin 11"

## WF-11RA
designator XP?, comment PCB Rigth Angle Connector 11-Pin, Pitch 2.54mm  (value not drawn)
PCB Rigth Angle Connector 11-Pin, Pitch 2.54mm, 250V, 3A per Pin; Manufacture: Connfly; PartNumber: DS1070-11MRV6A; ComponentLink1Description: WF (DS1070) Series Connector; ComponentLink1URL: http://www.connfly.com/userfiles/image/UpLoadFile/File/2018/2/28/DS1070.pdf; Pin 11 Name: *; Pin 10 Name: *; Pin 9 Name: *; Pin 8 Name: *; Pin 7 Name: *; Pin 6 Name: *; Pin 5 Name: *; Pin 4 Name: *; Pin 3 Name: *; Name Connector: *; Pin 2 Name: *; Pin 1 Name: *
footprint WF-11RA (PCB Rigth Angle Connector 11-Pin)
pins: 1 "Pin 1", 2 "Pin 2", 3 "Pin 3", 4 "Pin 4", 5 "Pin 5", 6 "Pin 6", 7 "Pin 7", 8 "Pin 8", 9 "Pin 9", 10 "Pin 10", 11 "Pin 11"

## WF-12
designator XP?, comment PCB Vertical Connector 12-Pin, Pitch 2.54mm  (value not drawn)
PCB Vertical Connector 12-Pin Pitch 2.54mm, 250V, 3A per Pin; Manufacture: Connfly; PartNumber: DS1070-12MVV6A; ComponentLink1Description: WF (DS1070) Series Connector; ComponentLink1URL: http://www.connfly.com/userfiles/image/UpLoadFile/File/2018/2/28/DS1070.pdf; Pin 12 Name: *; Pin 11 Name: *; Pin 10 Name: *; Pin 9 Name: *; Pin 8 Name: *; Pin 7 Name: *; Pin 6 Name: *; Pin 5 Name: *; Pin 4 Name: *; Pin 3 Name: *; Name Connector: *; Pin 2 Name: *; Pin 1 Name: *
footprint WF-12 (PCB Vertical Connector 12-Pin)
pins: 1 "Pin 1", 2 "Pin 2", 3 "Pin 3", 4 "Pin 4", 5 "Pin 5", 6 "Pin 6", 7 "Pin 7", 8 "Pin 8", 9 "Pin 9", 10 "Pin 10", 11 "Pin 11", 12 "Pin 12"

## WF-12RA
designator XP?, comment PCB Rigth Angle Connector 12-Pin, Pitch 2.54mm  (value not drawn)
PCB Rigth Angle Connector 12-Pin, Pitch 2.54mm, 250V, 3A per Pin; Manufacture: Connfly; PartNumber: DS1070-12MRV6A; ComponentLink1Description: WF (DS1070) Series Connector; ComponentLink1URL: http://www.connfly.com/userfiles/image/UpLoadFile/File/2018/2/28/DS1070.pdf; Pin 12 Name: *; Pin 11 Name: *; Pin 10 Name: *; Pin 9 Name: *; Pin 8 Name: *; Pin 7 Name: *; Pin 6 Name: *; Pin 5 Name: *; Pin 4 Name: *; Pin 3 Name: *; Name Connector: *; Pin 2 Name: *; Pin 1 Name: *
footprint WF-12RA (PCB Rigth Angle Connector 12-Pin)
pins: 1 "Pin 1", 2 "Pin 2", 3 "Pin 3", 4 "Pin 4", 5 "Pin 5", 6 "Pin 6", 7 "Pin 7", 8 "Pin 8", 9 "Pin 9", 10 "Pin 10", 11 "Pin 11", 12 "Pin 12"

## WF-13
designator XP?, comment PCB Vertical Connector 13-Pin, Pitch 2.54mm  (value not drawn)
PCB Vertical Connector 13-Pin Pitch 2.54mm, 250V, 3A per Pin; Manufacture: Connfly; PartNumber: DS1070-13MVV6A; ComponentLink1Description: WF (DS1070) Series Connector; ComponentLink1URL: http://www.connfly.com/userfiles/image/UpLoadFile/File/2018/2/28/DS1070.pdf; Pin 13 Name: *; Pin 12 Name: *; Pin 11 Name: *; Pin 10 Name: *; Pin 9 Name: *; Pin 8 Name: *; Pin 7 Name: *; Pin 6 Name: *; Pin 5 Name: *; Pin 4 Name: *; Pin 3 Name: *; Name Connector: *; Pin 2 Name: *; Pin 1 Name: *
footprint WF-13 (PCB Vertical Connector 13-Pin)
pins: 1 "Pin 1", 2 "Pin 2", 3 "Pin 3", 4 "Pin 4", 5 "Pin 5", 6 "Pin 6", 7 "Pin 7", 8 "Pin 8", 9 "Pin 9", 10 "Pin 10", 11 "Pin 11", 12 "Pin 12", 13 "Pin 13"

## WF-13RA
designator XP?, comment PCB Rigth Angle Connector 13-Pin, Pitch 2.54mm  (value not drawn)
PCB Rigth Angle Connector 13-Pin, Pitch 2.54mm, 250V, 3A per Pin; Manufacture: Connfly; PartNumber: DS1070-13MRV6A; ComponentLink1Description: WF (DS1070) Series Connector; ComponentLink1URL: http://www.connfly.com/userfiles/image/UpLoadFile/File/2018/2/28/DS1070.pdf; Pin 13 Name: *; Pin 12 Name: *; Pin 11 Name: *; Pin 10 Name: *; Pin 9 Name: *; Pin 8 Name: *; Pin 7 Name: *; Pin 6 Name: *; Pin 5 Name: *; Pin 4 Name: *; Pin 3 Name: *; Name Connector: *; Pin 2 Name: *; Pin 1 Name: *
footprint WF-13RA (PCB Rigth Angle Connector 13-Pin)
pins: 1 "Pin 1", 2 "Pin 2", 3 "Pin 3", 4 "Pin 4", 5 "Pin 5", 6 "Pin 6", 7 "Pin 7", 8 "Pin 8", 9 "Pin 9", 10 "Pin 10", 11 "Pin 11", 12 "Pin 12", 13 "Pin 13"

## WF-14
designator XP?, comment PCB Vertical Connector 14-Pin, Pitch 2.54mm  (value not drawn)
PCB Vertical Connector 14-Pin Pitch 2.54mm, 250V, 3A per Pin; Manufacture: Connfly; PartNumber: DS1070-14MVV6A; ComponentLink1Description: WF (DS1070) Series Connector; ComponentLink1URL: http://www.connfly.com/userfiles/image/UpLoadFile/File/2018/2/28/DS1070.pdf; Pin 14 Name: *; Pin 13 Name: *; Pin 12 Name: *; Pin 11 Name: *; Pin 10 Name: *; Pin 9 Name: *; Pin 8 Name: *; Pin 7 Name: *; Pin 6 Name: *; Pin 5 Name: *; Pin 4 Name: *; Pin 3 Name: *; Name Connector: *; Pin 2 Name: *; Pin 1 Name: *
footprint WF-14 (PCB Vertical Connector 14-Pin)
pins: 1 "Pin 1", 2 "Pin 2", 3 "Pin 3", 4 "Pin 4", 5 "Pin 5", 6 "Pin 6", 7 "Pin 7", 8 "Pin 8", 9 "Pin 9", 10 "Pin 10", 11 "Pin 11", 12 "Pin 12", 13 "Pin 13", 14 "Pin 14"

## WF-14RA
designator XP?, comment PCB Rigth Angle Connector 14-Pin, Pitch 2.54mm  (value not drawn)
PCB Rigth Angle Connector 14-Pin, Pitch 2.54mm, 250V, 3A per Pin; Manufacture: Connfly; PartNumber: DS1070-14MRV6A; ComponentLink1Description: WF (DS1070) Series Connector; ComponentLink1URL: http://www.connfly.com/userfiles/image/UpLoadFile/File/2018/2/28/DS1070.pdf; Pin 14 Name: *; Pin 13 Name: *; Pin 12 Name: *; Pin 11 Name: *; Pin 10 Name: *; Pin 9 Name: *; Pin 8 Name: *; Pin 7 Name: *; Pin 6 Name: *; Pin 5 Name: *; Pin 4 Name: *; Pin 3 Name: *; Name Connector: *; Pin 2 Name: *; Pin 1 Name: *
footprint WF-14RA (PCB Rigth Angle Connector 14-Pin)
pins: 1 "Pin 1", 2 "Pin 2", 3 "Pin 3", 4 "Pin 4", 5 "Pin 5", 6 "Pin 6", 7 "Pin 7", 8 "Pin 8", 9 "Pin 9", 10 "Pin 10", 11 "Pin 11", 12 "Pin 12", 13 "Pin 13", 14 "Pin 14"

## WF-15
designator XP?, comment PCB Vertical Connector 15-Pin, Pitch 2.54mm  (value not drawn)
PCB Vertical Connector 15-Pin Pitch 2.54mm, 250V, 3A per Pin; Manufacture: Connfly; PartNumber: DS1070-15MVV6A; ComponentLink1Description: WF (DS1070) Series Connector; ComponentLink1URL: http://www.connfly.com/userfiles/image/UpLoadFile/File/2018/2/28/DS1070.pdf; Pin 15 Name: *; Pin 14 Name: *; Pin 13 Name: *; Pin 12 Name: *; Pin 11 Name: *; Pin 10 Name: *; Pin 9 Name: *; Pin 8 Name: *; Pin 7 Name: *; Pin 6 Name: *; Pin 5 Name: *; Pin 4 Name: *; Pin 3 Name: *; Name Connector: *; Pin 2 Name: *; Pin 1 Name: *
footprint WF-15 (PCB Vertical Connector 15-Pin)
pins: 1 "Pin 1", 2 "Pin 2", 3 "Pin 3", 4 "Pin 4", 5 "Pin 5", 6 "Pin 6", 7 "Pin 7", 8 "Pin 8", 9 "Pin 9", 10 "Pin 10", 11 "Pin 11", 12 "Pin 12", 13 "Pin 13", 14 "Pin 14", 15 "Pin 15"

## WF-15RA
designator XP?, comment PCB Rigth Angle Connector 15-Pin, Pitch 2.54mm  (value not drawn)
PCB Rigth Angle Connector 15-Pin, Pitch 2.54mm, 250V, 3A per Pin; Manufacture: Connfly; PartNumber: DS1070-15MRV6A; ComponentLink1Description: WF (DS1070) Series Connector; ComponentLink1URL: http://www.connfly.com/userfiles/image/UpLoadFile/File/2018/2/28/DS1070.pdf; Pin 15 Name: *; Pin 14 Name: *; Pin 13 Name: *; Pin 12 Name: *; Pin 11 Name: *; Pin 10 Name: *; Pin 9 Name: *; Pin 8 Name: *; Pin 7 Name: *; Pin 6 Name: *; Pin 5 Name: *; Pin 4 Name: *; Pin 3 Name: *; Name Connector: *; Pin 2 Name: *; Pin 1 Name: *
footprint WF-15RA (PCB Rigth Angle Connector 15-Pin)
pins: 1 "Pin 1", 2 "Pin 2", 3 "Pin 3", 4 "Pin 4", 5 "Pin 5", 6 "Pin 6", 7 "Pin 7", 8 "Pin 8", 9 "Pin 9", 10 "Pin 10", 11 "Pin 11", 12 "Pin 12", 13 "Pin 13", 14 "Pin 14", 15 "Pin 15"

## WF-16
designator XP?, comment PCB Vertical Connector 16-Pin, Pitch 2.54mm  (value not drawn)
PCB Vertical Connector 16-Pin Pitch 2.54mm, 250V, 3A per Pin; Manufacture: Connfly; PartNumber: DS1070-16MVV6A; ComponentLink1Description: WF (DS1070) Series Connector; ComponentLink1URL: http://www.connfly.com/userfiles/image/UpLoadFile/File/2018/2/28/DS1070.pdf; Pin 16 Name: *; Pin 15 Name: *; Pin 14 Name: *; Pin 13 Name: *; Pin 12 Name: *; Pin 11 Name: *; Pin 10 Name: *; Pin 9 Name: *; Pin 8 Name: *; Pin 7 Name: *; Pin 6 Name: *; Pin 5 Name: *; Pin 4 Name: *; Pin 3 Name: *; Name Connector: *; Pin 2 Name: *; Pin 1 Name: *
footprint WF-16 (PCB Vertical Connector 16-Pin)
pins: 1 "Pin 1", 2 "Pin 2", 3 "Pin 3", 4 "Pin 4", 5 "Pin 5", 6 "Pin 6", 7 "Pin 7", 8 "Pin 8", 9 "Pin 9", 10 "Pin 10", 11 "Pin 11", 12 "Pin 12", 13 "Pin 13", 14 "Pin 14", 15 "Pin 15", 16 "Pin 16"

## WF-16RA
designator XP?, comment PCB Rigth Angle Connector 16-Pin, Pitch 2.54mm  (value not drawn)
PCB Rigth Angle Connector 16-Pin, Pitch 2.54mm, 250V, 3A per Pin; Manufacture: Connfly; PartNumber: DS1070-16MRV6A; ComponentLink1Description: WF (DS1070) Series Connector; ComponentLink1URL: http://www.connfly.com/userfiles/image/UpLoadFile/File/2018/2/28/DS1070.pdf; Pin 16 Name: *; Pin 15 Name: *; Pin 14 Name: *; Pin 13 Name: *; Pin 12 Name: *; Pin 11 Name: *; Pin 10 Name: *; Pin 9 Name: *; Pin 8 Name: *; Pin 7 Name: *; Pin 6 Name: *; Pin 5 Name: *; Pin 4 Name: *; Pin 3 Name: *; Name Connector: *; Pin 2 Name: *; Pin 1 Name: *
footprint WF-16RA (PCB Rigth Angle Connector 16-Pin)
pins: 1 "Pin 1", 2 "Pin 2", 3 "Pin 3", 4 "Pin 4", 5 "Pin 5", 6 "Pin 6", 7 "Pin 7", 8 "Pin 8", 9 "Pin 9", 10 "Pin 10", 11 "Pin 11", 12 "Pin 12", 13 "Pin 13", 14 "Pin 14", 15 "Pin 15", 16 "Pin 16"

## WF-17
designator XP?, comment PCB Vertical Connector 17-Pin, Pitch 2.54mm  (value not drawn)
PCB Vertical Connector 17-Pin Pitch 2.54mm, 250V, 3A per Pin; Manufacture: Connfly; PartNumber: DS1070-17MVV6A; ComponentLink1Description: WF (DS1070) Series Connector; ComponentLink1URL: http://www.connfly.com/userfiles/image/UpLoadFile/File/2018/2/28/DS1070.pdf; Pin 17 Name: *; Pin 16 Name: *; Pin 15 Name: *; Pin 14 Name: *; Pin 13 Name: *; Pin 12 Name: *; Pin 11 Name: *; Pin 10 Name: *; Pin 9 Name: *; Pin 8 Name: *; Pin 7 Name: *; Pin 6 Name: *; Pin 5 Name: *; Pin 4 Name: *; Pin 3 Name: *; Name Connector: *; Pin 2 Name: *; Pin 1 Name: *
footprint WF-17 (PCB Vertical Connector 17-Pin)
pins: 1 "Pin 1", 2 "Pin 2", 3 "Pin 3", 4 "Pin 4", 5 "Pin 5", 6 "Pin 6", 7 "Pin 7", 8 "Pin 8", 9 "Pin 9", 10 "Pin 10", 11 "Pin 11", 12 "Pin 12", 13 "Pin 13", 14 "Pin 14", 15 "Pin 15", 16 "Pin 16", 17 "Pin 17"

## WF-17RA
designator XP?, comment PCB Rigth Angle Connector 17-Pin, Pitch 2.54mm  (value not drawn)
PCB Rigth Angle Connector 17-Pin, Pitch 2.54mm, 250V, 3A per Pin; Manufacture: Connfly; PartNumber: DS1070-17MRV6A; ComponentLink1Description: WF (DS1070) Series Connector; ComponentLink1URL: http://www.connfly.com/userfiles/image/UpLoadFile/File/2018/2/28/DS1070.pdf; Pin 17 Name: *; Pin 16 Name: *; Pin 15 Name: *; Pin 14 Name: *; Pin 13 Name: *; Pin 12 Name: *; Pin 11 Name: *; Pin 10 Name: *; Pin 9 Name: *; Pin 8 Name: *; Pin 7 Name: *; Pin 6 Name: *; Pin 5 Name: *; Pin 4 Name: *; Pin 3 Name: *; Name Connector: *; Pin 2 Name: *; Pin 1 Name: *
footprint WF-17RA (PCB Rigth Angle Connector 17-Pin)
pins: 1 "Pin 1", 2 "Pin 2", 3 "Pin 3", 4 "Pin 4", 5 "Pin 5", 6 "Pin 6", 7 "Pin 7", 8 "Pin 8", 9 "Pin 9", 10 "Pin 10", 11 "Pin 11", 12 "Pin 12", 13 "Pin 13", 14 "Pin 14", 15 "Pin 15", 16 "Pin 16", 17 "Pin 17"

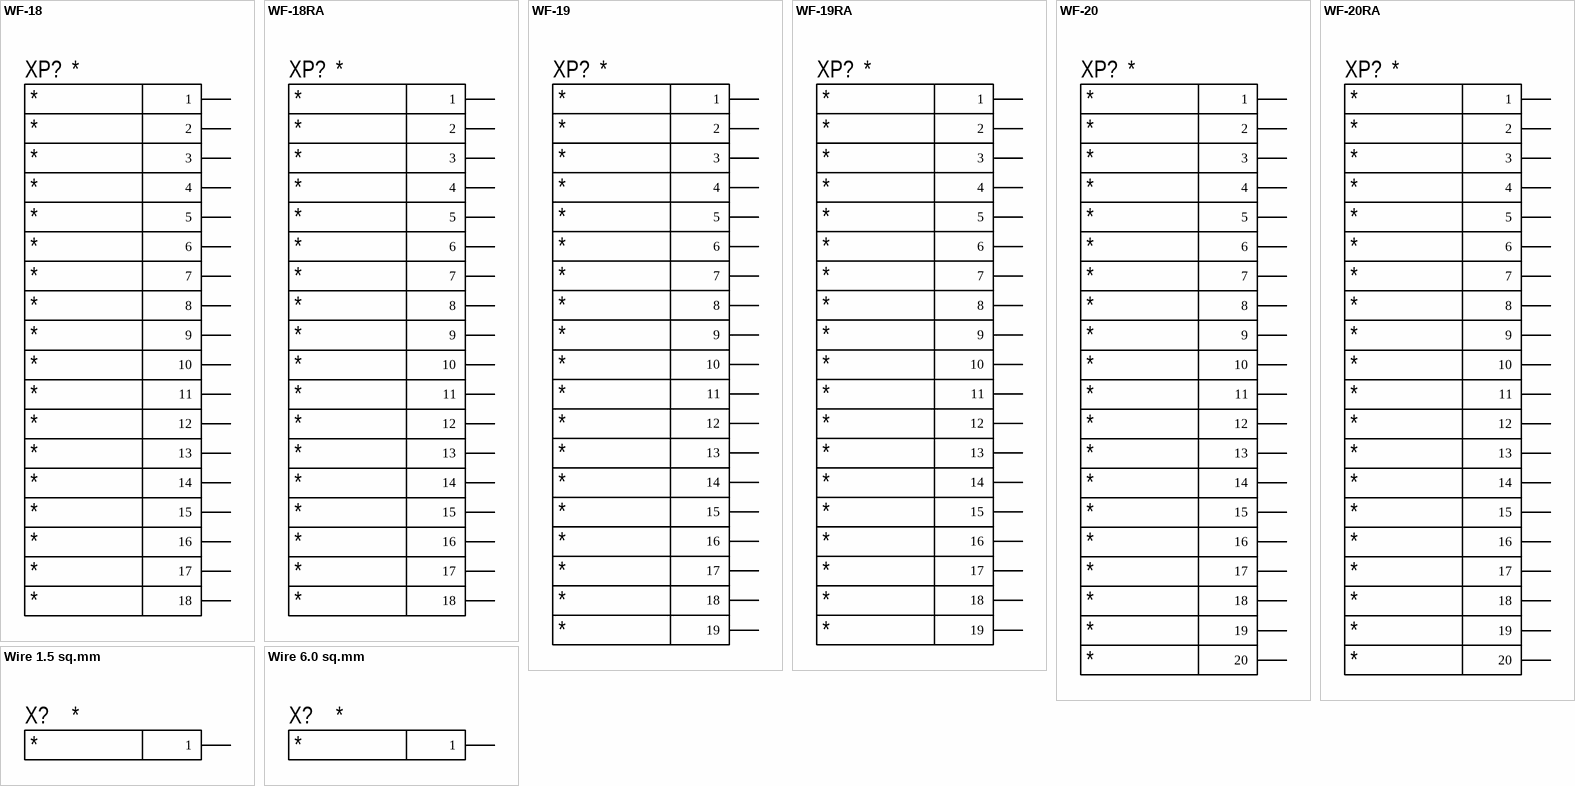
[diagram p3: symbols WF-18 to Wire 6.0 sq.mm]

## WF-18
designator XP?, comment PCB Vertical Connector 18-Pin, Pitch 2.54mm  (value not drawn)
PCB Vertical Connector 18-Pin Pitch 2.54mm, 250V, 3A per Pin; Manufacture: Connfly; PartNumber: DS1070-18MVV6A; ComponentLink1Description: WF (DS1070) Series Connector; ComponentLink1URL: http://www.connfly.com/userfiles/image/UpLoadFile/File/2018/2/28/DS1070.pdf; Pin 18 Name: *; Pin 17 Name: *; Pin 16 Name: *; Pin 15 Name: *; Pin 14 Name: *; Pin 13 Name: *; Pin 12 Name: *; Pin 11 Name: *; Pin 10 Name: *; Pin 9 Name: *; Pin 8 Name: *; Pin 7 Name: *; Pin 6 Name: *; Pin 5 Name: *; Pin 4 Name: *; Pin 3 Name: *; Name Connector: *; Pin 2 Name: *; Pin 1 Name: *
footprint WF-18 (PCB Vertical Connector 18-Pin)
pins: 1 "Pin 1", 2 "Pin 2", 3 "Pin 3", 4 "Pin 4", 5 "Pin 5", 6 "Pin 6", 7 "Pin 7", 8 "Pin 8", 9 "Pin 9", 10 "Pin 10", 11 "Pin 11", 12 "Pin 12", 13 "Pin 13", 14 "Pin 14", 15 "Pin 15", 16 "Pin 16", 17 "Pin 17", 18 "Pin 18"

## WF-18RA
designator XP?, comment PCB Rigth Angle Connector 18-Pin, Pitch 2.54mm  (value not drawn)
PCB Rigth Angle Connector 18-Pin, Pitch 2.54mm, 250V, 3A per Pin; Manufacture: Connfly; PartNumber: DS1070-18MRV6A; ComponentLink1Description: WF (DS1070) Series Connector; ComponentLink1URL: http://www.connfly.com/userfiles/image/UpLoadFile/File/2018/2/28/DS1070.pdf; Pin 18 Name: *; Pin 17 Name: *; Pin 16 Name: *; Pin 15 Name: *; Pin 14 Name: *; Pin 13 Name: *; Pin 12 Name: *; Pin 11 Name: *; Pin 10 Name: *; Pin 9 Name: *; Pin 8 Name: *; Pin 7 Name: *; Pin 6 Name: *; Pin 5 Name: *; Pin 4 Name: *; Pin 3 Name: *; Name Connector: *; Pin 2 Name: *; Pin 1 Name: *
footprint WF-18RA (PCB Rigth Angle Connector 18-Pin)
pins: 1 "Pin 1", 2 "Pin 2", 3 "Pin 3", 4 "Pin 4", 5 "Pin 5", 6 "Pin 6", 7 "Pin 7", 8 "Pin 8", 9 "Pin 9", 10 "Pin 10", 11 "Pin 11", 12 "Pin 12", 13 "Pin 13", 14 "Pin 14", 15 "Pin 15", 16 "Pin 16", 17 "Pin 17", 18 "Pin 18"

## WF-19
designator XP?, comment PCB Vertical Connector 19-Pin, Pitch 2.54mm  (value not drawn)
PCB Vertical Connector 19-Pin Pitch 2.54mm, 250V, 3A per Pin; Manufacture: Connfly; PartNumber: DS1070-19MVV6A; ComponentLink1Description: WF (DS1070) Series Connector; ComponentLink1URL: http://www.connfly.com/userfiles/image/UpLoadFile/File/2018/2/28/DS1070.pdf; Pin 19 Name: *; Pin 18 Name: *; Pin 17 Name: *; Pin 16 Name: *; Pin 15 Name: *; Pin 14 Name: *; Pin 13 Name: *; Pin 12 Name: *; Pin 11 Name: *; Pin 10 Name: *; Pin 9 Name: *; Pin 8 Name: *; Pin 7 Name: *; Pin 6 Name: *; Pin 5 Name: *; Pin 4 Name: *; Pin 3 Name: *; Name Connector: *; Pin 2 Name: *; Pin 1 Name: *
footprint WF-19 (PCB Vertical Connector 19-Pin)
pins: 1 "Pin 1", 2 "Pin 2", 3 "Pin 3", 4 "Pin 4", 5 "Pin 5", 6 "Pin 6", 7 "Pin 7", 8 "Pin 8", 9 "Pin 9", 10 "Pin 10", 11 "Pin 11", 12 "Pin 12", 13 "Pin 13", 14 "Pin 14", 15 "Pin 15", 16 "Pin 16", 17 "Pin 17", 18 "Pin 18", 19 "Pin 19"

## WF-19RA
designator XP?, comment PCB Rigth Angle Connector 19-Pin, Pitch 2.54mm  (value not drawn)
PCB Rigth Angle Connector 19-Pin, Pitch 2.54mm, 250V, 3A per Pin; Manufacture: Connfly; PartNumber: DS1070-19MRV6A; ComponentLink1Description: WF (DS1070) Series Connector; ComponentLink1URL: http://www.connfly.com/userfiles/image/UpLoadFile/File/2018/2/28/DS1070.pdf; Pin 19 Name: *; Pin 18 Name: *; Pin 17 Name: *; Pin 16 Name: *; Pin 15 Name: *; Pin 14 Name: *; Pin 13 Name: *; Pin 12 Name: *; Pin 11 Name: *; Pin 10 Name: *; Pin 9 Name: *; Pin 8 Name: *; Pin 7 Name: *; Pin 6 Name: *; Pin 5 Name: *; Pin 4 Name: *; Pin 3 Name: *; Name Connector: *; Pin 2 Name: *; Pin 1 Name: *
footprint WF-19RA (PCB Rigth Angle Connector 19-Pin)
pins: 1 "Pin 1", 2 "Pin 2", 3 "Pin 3", 4 "Pin 4", 5 "Pin 5", 6 "Pin 6", 7 "Pin 7", 8 "Pin 8", 9 "Pin 9", 10 "Pin 10", 11 "Pin 11", 12 "Pin 12", 13 "Pin 13", 14 "Pin 14", 15 "Pin 15", 16 "Pin 16", 17 "Pin 17", 18 "Pin 18", 19 "Pin 19"

## WF-20
designator XP?, comment PCB Vertical Connector 20-Pin, Pitch 2.54mm  (value not drawn)
PCB Vertical Connector 20-Pin Pitch 2.54mm, 250V, 3A per Pin; Manufacture: Connfly; PartNumber: DS1070-20MVV6A; ComponentLink1Description: WF (DS1070) Series Connector; ComponentLink1URL: http://www.connfly.com/userfiles/image/UpLoadFile/File/2018/2/28/DS1070.pdf; Pin 20 Name: *; Pin 19 Name: *; Pin 18 Name: *; Pin 17 Name: *; Pin 16 Name: *; Pin 15 Name: *; Pin 14 Name: *; Pin 13 Name: *; Pin 12 Name: *; Pin 11 Name: *; Pin 10 Name: *; Pin 9 Name: *; Pin 8 Name: *; Pin 7 Name: *; Pin 6 Name: *; Pin 5 Name: *; Pin 4 Name: *; Pin 3 Name: *; Name Connector: *; Pin 2 Name: *; Pin 1 Name: *
footprint WF-20 (PCB Vertical Connector 20-Pin)
pins: 1 "Pin 1", 2 "Pin 2", 3 "Pin 3", 4 "Pin 4", 5 "Pin 5", 6 "Pin 6", 7 "Pin 7", 8 "Pin 8", 9 "Pin 9", 10 "Pin 10", 11 "Pin 11", 12 "Pin 12", 13 "Pin 13", 14 "Pin 14", 15 "Pin 15", 16 "Pin 16", 17 "Pin 17", 18 "Pin 18", 19 "Pin 19", 20 "Pin 20"

## WF-20RA
designator XP?, comment PCB Rigth Angle Connector 20-Pin, Pitch 2.54mm  (value not drawn)
PCB Rigth Angle Connector 20-Pin, Pitch 2.54mm, 250V, 3A per Pin; Manufacture: Connfly; PartNumber: DS1070-20MRV6A; ComponentLink1Description: WF (DS1070) Series Connector; ComponentLink1URL: http://www.connfly.com/userfiles/image/UpLoadFile/File/2018/2/28/DS1070.pdf; Pin 20 Name: *; Pin 19 Name: *; Pin 18 Name: *; Pin 17 Name: *; Pin 16 Name: *; Pin 15 Name: *; Pin 14 Name: *; Pin 13 Name: *; Pin 12 Name: *; Pin 11 Name: *; Pin 10 Name: *; Pin 9 Name: *; Pin 8 Name: *; Pin 7 Name: *; Pin 6 Name: *; Pin 5 Name: *; Pin 4 Name: *; Pin 3 Name: *; Name Connector: *; Pin 2 Name: *; Pin 1 Name: *
footprint WF-20RA (PCB Rigth Angle Connector 20-Pin)
pins: 1 "Pin 1", 2 "Pin 2", 3 "Pin 3", 4 "Pin 4", 5 "Pin 5", 6 "Pin 6", 7 "Pin 7", 8 "Pin 8", 9 "Pin 9", 10 "Pin 10", 11 "Pin 11", 12 "Pin 12", 13 "Pin 13", 14 "Pin 14", 15 "Pin 15", 16 "Pin 16", 17 "Pin 17", 18 "Pin 18", 19 "Pin 19", 20 "Pin 20"

## Wire 1.5 sq.mm
designator X?
Hole for direct soldering of the wire 1.5 sq.mm; PartNumber: None; Manufacture: None; Pin Name: *; Name Connector: *
footprint Wire 1.5 sq.mm (Direct soldering hole of wire 1.5 sq.mm)
pins: 1 "Pin 1"

## Wire 6.0 sq.mm
designator X?, comment Faston .110 PCB Straight Tab  (value not drawn)
Hole for direct soldering of the wire 6.0 sq.mm; PartNumber: None; Manufacture: None; Pin Name: *; Name Connector: *
footprint Wire 6 sq.mm (Direct soldering hole of wire 6 sq.mm)
pins: 1 "Pin 1"